# Altium schematic symbol library CT3149-6.SchLib: 1 symbol
Pins are listed as number, name and electrical type; pins without a type are passive.

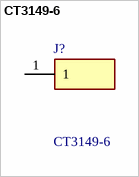
[diagram p0: symbol CT3149-6]

## CT3149-6
designator J?
Test Plugs & Test Jacks SafetyJack,ShortPin Vert PCB Mount,Blue; Manufacturer_Name: Cal Test; Geometry.Height: 21mm; Manufacturer_Part_Number: CT3149-6; Mouser Part Number: 510-CT3149-6; Mouser Price/Stock: https://www.mouser.co.uk/ProductDetail/Cal-Test/CT3149-6?qs=vgjKjNJexTjVH7JXtDy55g%3D%3D; Arrow Part Number: *; Arrow Price/Stock: *; Datasheet Link: https://www.mouser.in/datasheet/2/701/CT3149_drawing-1308432.pdf
footprint CT31496
pins: 1